# Altium footprint library R1210.PcbLib: 1 footprints
Each footprint in its own frame and in the unit in brackets; x right, y up, seen from the top. Pads: shape width x height; smd on the part's side, far side on the other; paste and mask are expansions set on the pad; w line width, h text height; cw(c..) or ccw(c..) is an arc to the next point about the centre after c.
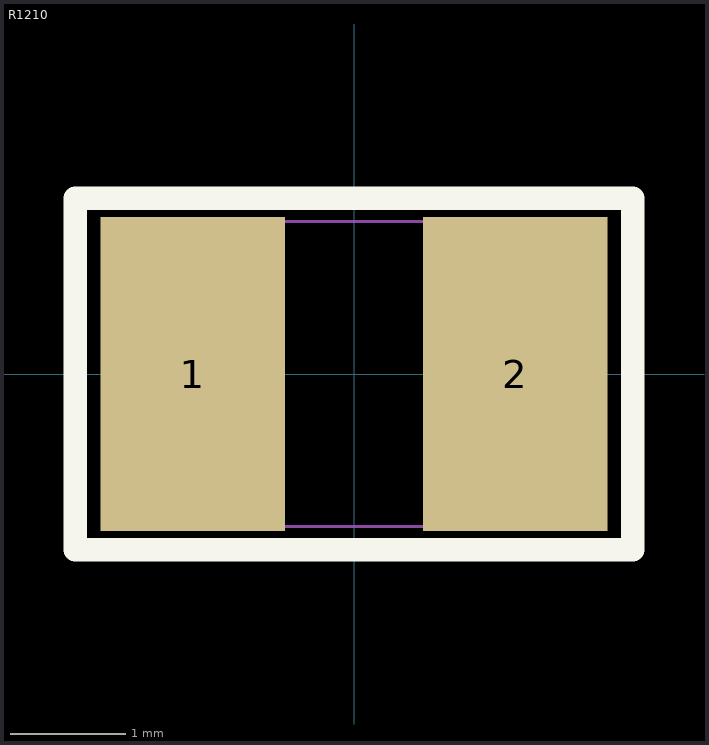
[diagram p0: the footprint, top view; thin cyan lines are the x and y axes]

## R1210 [mil]
pads (2):
  rect 63x107 smd: 1(-55,0) 2(55,0)
Top Overlay:
  lines w8: -95,-60 -95,60 95,60 95,-60 -95,-60
Mechanical 1:
  lines w1: -36.42,-51.97 -36.42,51.97 ; 36.42,-51.97 36.42,51.97 ; -65.94,-51.97 -65.94,51.97 65.94,51.97 65.94,-51.97 -65.94,-51.97
3D body: height 22.24, standoff 0, extent -61.02,-51.18 61.02,51.26